# Altium footprint library BGA4-SPE-LP5900.PcbLib: 1 footprints
Each footprint in its own frame and in the unit in brackets; x right, y up, seen from the top. Pads: shape width x height; smd on the part's side, far side on the other; paste and mask are expansions set on the pad; w line width, h text height; cw(c..) or ccw(c..) is an arc to the next point about the centre after c.
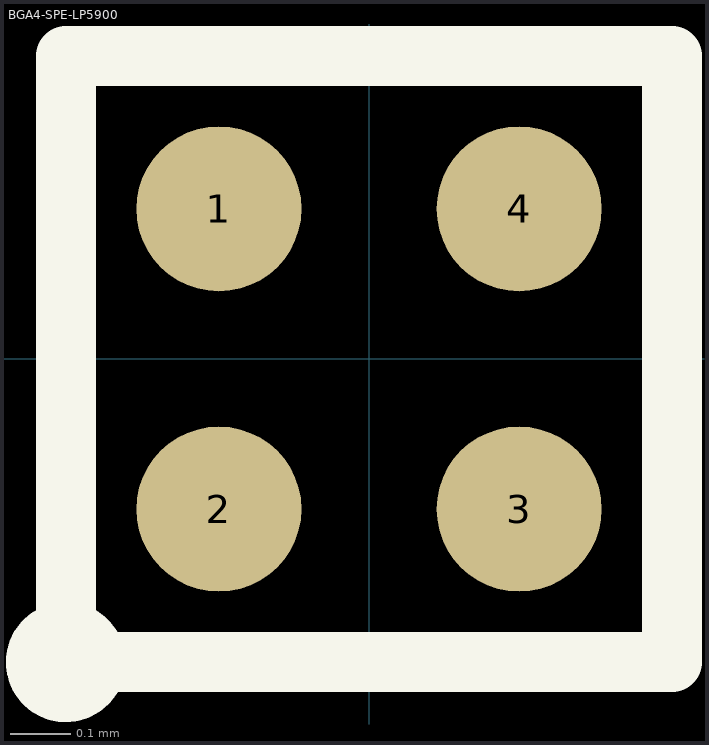
[diagram p0: the footprint, top view; thin cyan lines are the x and y axes]

## BGA4-SPE-LP5900 [mm]
pads (4):
  round 0.275 smd mask+0: 1(-0.25,0.25) 2(-0.25,-0.25) 3(0.25,-0.25) 4(0.25,0.25)
Top Overlay:
  circle w0.1: c-0.505,-0.505 r0.05
  lines w0.1: -0.505,-0.505 -0.505,0.505 0.505,0.505 0.505,-0.505 -0.505,-0.505
3D body: height 1, standoff 0, extent -0.508,-0.508 0.508,0.508